# Altium footprint library nsi1200.PcbLib: 1 footprints
Each footprint in its own frame and in the unit in brackets; x right, y up, seen from the top. Pads: shape width x height; smd on the part's side, far side on the other; paste and mask are expansions set on the pad; w line width, h text height; cw(c..) or ccw(c..) is an arc to the next point about the centre after c.
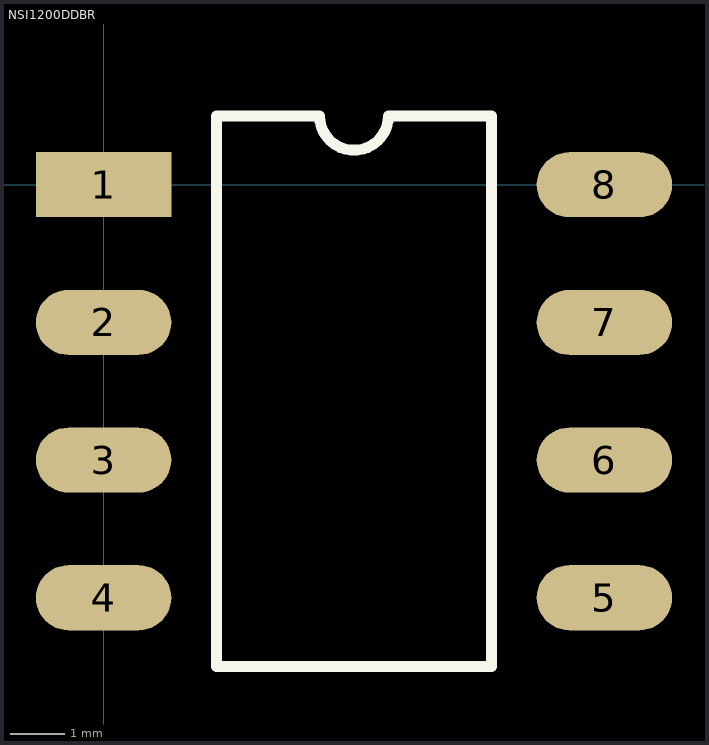
[diagram p0: the footprint, top view; thin cyan lines are the x and y axes]

## NSI1200DDBR [mm]
pads (8):
  rect 2.5x1.2 smd: 1(0,0)
  oval 2.5x1.2 smd: 2(0,-2.54) 3(0,-5.08) 4(0,-7.62) 5(9.24,-7.62) 6(9.24,-5.08) 7(9.24,-2.54) 8(9.24,0)
Top Overlay:
  lines w0.2: 2.085,-8.89 2.085,1.27 3.985,1.27 ccw(c4.62,1.27) 5.255,1.27 7.155,1.27 7.155,-8.89 2.085,-8.89